# EAGLE library part TCA9555 (library Bauteile)
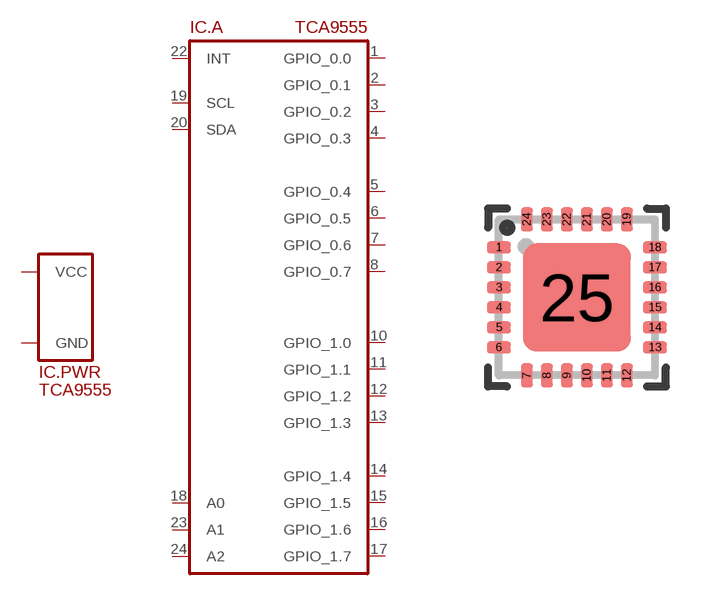
[diagram p194: symbol with the pads of QFN24-0.5; footprint QFN24-0.5]

Designator prefix IC; gates .PWR=SUPPLY_VCC/GND .A=TCA9555

## TCA9555  [QFN24-0.5]
1  .A:GPIO_0.0
2  .A:GPIO_0.1
3  .A:GPIO_0.2
4  .A:GPIO_0.3
5  .A:GPIO_0.4
6  .A:GPIO_0.5
7  .A:GPIO_0.6
8  .A:GPIO_0.7
9  .PWR:GND
10  .A:GPIO_1.0
11  .A:GPIO_1.1
12  .A:GPIO_1.2
13  .A:GPIO_1.3
14  .A:GPIO_1.4
15  .A:GPIO_1.5
16  .A:GPIO_1.6
17  .A:GPIO_1.7
18  .A:A0
19  .A:SCL
20  .A:SDA
21  .PWR:VCC
22  .A:INT
23  .A:A1
24  .A:A2

## Footprint QFN24-0.5 (pad centres in mm)
smd 0.6 x 0.3: 1 -1.95,1.25; 2 -1.95,0.75; 3 -1.95,0.25; 4 -1.95,-0.25; 5 -1.95,-0.75; 6 -1.95,-1.25; 13 1.95,-1.25; 14 1.95,-0.75; 15 1.95,-0.25; 16 1.95,0.25; 17 1.95,0.75; 18 1.95,1.25
smd 0.3 x 0.6: 7 -1.25,-1.95; 8 -0.75,-1.95; 9 -0.25,-1.95; 10 0.25,-1.95; 11 0.75,-1.95; 12 1.25,-1.95; 19 1.25,1.95; 20 0.75,1.95; 21 0.25,1.95; 22 -0.25,1.95; 23 -0.75,1.95; 24 -1.25,1.95
smd 2.7 x 2.7: 25 0,0